# Altium schematic symbol library XTAL_GND.SchLib: 1 symbol
Pins are listed as number, name and electrical type; pins without a type are passive.

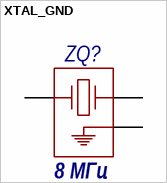
[diagram p0: symbol XTAL_GND]

## XTAL_GND
designator ZQ?, comment value 8 МГц  (hidden comment: Кварцевый резонатор)
Кварцевый резонатор в четырёхногом корпусе
pins: 1, 2, 3